# Altium footprint library ATNEL-WIFI232-T.PcbLib: 1 footprints
Each footprint in its own frame and in the unit in brackets; x right, y up, seen from the top. Pads: shape width x height; smd on the part's side, far side on the other; paste and mask are expansions set on the pad; w line width, h text height; cw(c..) or ccw(c..) is an arc to the next point about the centre after c.
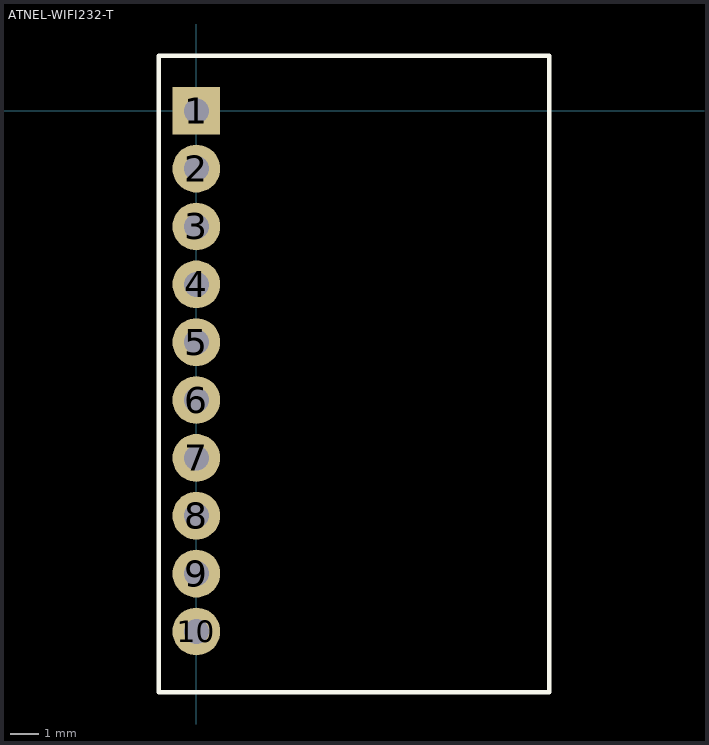
[diagram p0: the footprint, top view; thin cyan lines are the x and y axes]

## ATNEL-WIFI232-T [mil]
height 354.33
pads (10):
  rect 65x65 hole 34: 1(0,0)
  round 65 hole 34: 2(0,-78.74) 3(0,-157.48) 4(0,-236.22) 5(0,-314.96) 6(0,-393.7) 7(0,-472.44) 8(0,-551.18) 9(0,-629.92) 10(0,-708.66)
Top Overlay:
  lines w6: -51.18,-791.34 480.31,-791.34 480.31,74.8 -51.18,74.8 -51.18,-791.34